# Altium footprint library MEC-MUSB-MINIAB.PcbLib: 1 footprints
Each footprint in its own frame and in the unit in brackets; x right, y up, seen from the top. Pads: shape width x height; smd on the part's side, far side on the other; paste and mask are expansions set on the pad; w line width, h text height; cw(c..) or ccw(c..) is an arc to the next point about the centre after c.
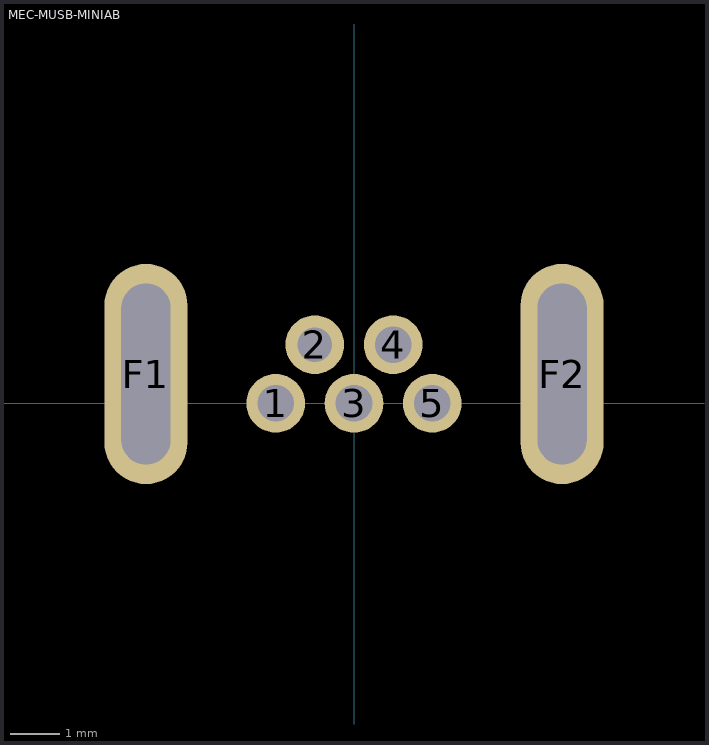
[diagram p0: the footprint, top view; thin cyan lines are the x and y axes]

## MEC-MUSB-MINIAB [mm]
pads (7):
  round 1.2 hole 0.75: 1(-1.6,0) 3(0,0) 4(0.8,1.2) 5(1.6,0)
  round 1.2 hole 0.7: 2(-0.8,1.2)
  oval 1.7x4.5 hole 1 slot 3.7 at 90 deg: F1(-4.25,0.6) F2(4.25,0.6)
3D body: height 8.2, standoff -2.8, extent -10,-0.9 10,9.38